# EAGLE library part POLOLU-713 (library POLOLU-713)
DC-motor driver; IC: TB6612FNG; 100kHz; 1A; Uin mot: 4.5
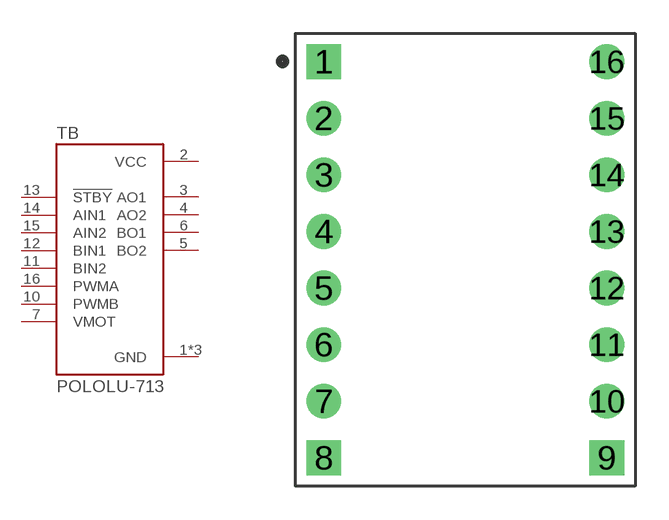
[diagram p0: symbol with the pads of SHIELD_POLOLU-713; footprint SHIELD_POLOLU-713]

Designator prefix TB

## POLOLU-713 (Availability: Unavailable; Description: DC-motor driver; IC: TB6612FNG; 100kHz; 1A; Uin mot: 4.5; MF: Pololu; MP: POLOLU-713; Package: None; Price: None)  [SHIELD_POLOLU-713]
1  GND  pwr
2  VCC  pwr
3  AO1  out
4  AO2  out
5  BO2  out
6  BO1  out
7  VMOT  in
8  GND  pwr
9  GND  pwr
10  PWMB  in
11  BIN2  in
12  BIN1  in
13  !STBY  in
14  AIN1  in
15  AIN2  in
16  PWMA  in

## Footprint SHIELD_POLOLU-713 (pad centres in mm)
drill 1.04 square: 1 -6.35,8.89; 8 -6.35,-8.89; 9 6.35,-8.89
drill 1.04: 2 -6.35,6.35; 3 -6.35,3.81; 4 -6.35,1.27; 5 -6.35,-1.27; 6 -6.35,-3.81; 7 -6.35,-6.35; 10 6.35,-6.35; 11 6.35,-3.81; 12 6.35,-1.27; 13 6.35,1.27; 14 6.35,3.81; 15 6.35,6.35; 16 6.35,8.89